# EAGLE library part A1454 (library a1454)
Allegro A1454 Hall Effect Sensor with I2C Interface
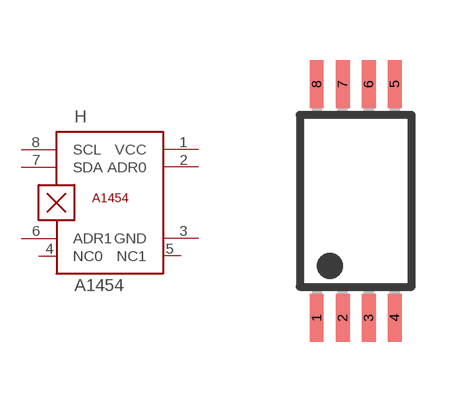
[diagram p0: symbol with the pads of TSSOP8; footprint TSSOP8]

Designator prefix H

## A1454SMD  [TSSOP8]
1  VCC  pwr
2  ADR0  in
3  GND  pas
4  NC0  nc
5  NC1  nc
6  ADR1  in
7  SDA
8  SCL

## Footprint TSSOP8 (pad centres in mm)
Thin Shrink Small Outline Package package type ST
smd 0.35 x 1.2: 1 -0.975,-2.925; 2 -0.325,-2.925; 3 0.325,-2.925; 4 0.975,-2.925; 5 0.975,2.925; 6 0.325,2.925; 7 -0.325,2.925; 8 -0.975,2.925